# EAGLE library part CHESTER-X (library hardwario)
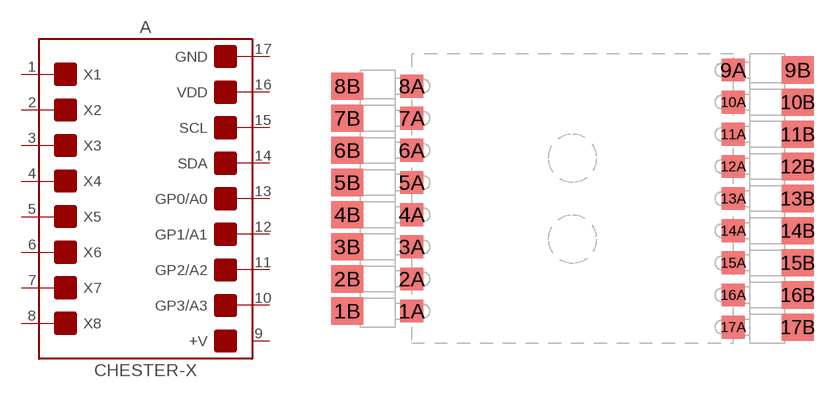
[diagram p3: symbol with the pads of CHESTER-X; footprint CHESTER-X]

Designator prefix A

## CHESTER-X (BCPN: -)  [CHESTER-X]
1A  1  pas
1B  1  pas
2A  2  pas
2B  2  pas
3A  3  pas
3B  3  pas
4A  4  pas
4B  4  pas
5A  5  pas
5B  5  pas
6A  6  pas
6B  6  pas
7A  7  pas
7B  7  pas
8A  8  pas
8B  8  pas
9A  9  pas
9B  9  pas
10A  10  pas
10B  10  pas
11A  11  pas
11B  11  pas
12A  12  pas
12B  12  pas
13A  13  pas
13B  13  pas
14A  14  pas
14B  14  pas
15A  15  pas
15B  15  pas
16A  16  pas
16B  16  pas
17A  17  pas
17B  17  pas

## Footprint CHESTER-X (pad centres in mm)
smd 1.8 x 1.8: 1A -12.7,-8.89; 2A -12.7,-6.35; 3A -12.7,-3.81; 4A -12.7,-1.27; 5A -12.7,1.27; 6A -12.7,3.81; 7A -12.7,6.35; 8A -12.7,8.89; 9A 12.7,10.16; 10A 12.7,7.62; 11A 12.7,5.08; 12A 12.7,2.54; 13A 12.7,0; 14A 12.7,-2.54; 15A 12.7,-5.08; 16A 12.7,-7.62; 17A 12.7,-10.16
smd 2.5 x 2.15: 1B -17.8,-8.89; 2B -17.8,-6.35; 3B -17.8,-3.81; 4B -17.8,-1.27; 5B -17.8,1.27; 6B -17.8,3.81; 7B -17.8,6.35; 8B -17.8,8.89; 9B 17.8,10.16; 10B 17.8,7.62; 11B 17.8,5.08; 12B 17.8,2.54; 13B 17.8,0; 14B 17.8,-2.54; 15B 17.8,-5.08; 16B 17.8,-7.62; 17B 17.8,-10.16